# Altium footprint library Crystal.PcbLib: 7 footprints
Each footprint in its own frame and in the unit in brackets; x right, y up, seen from the top. Pads: shape width x height; smd on the part's side, far side on the other; paste and mask are expansions set on the pad; w line width, h text height; cw(c..) or ccw(c..) is an arc to the next point about the centre after c.
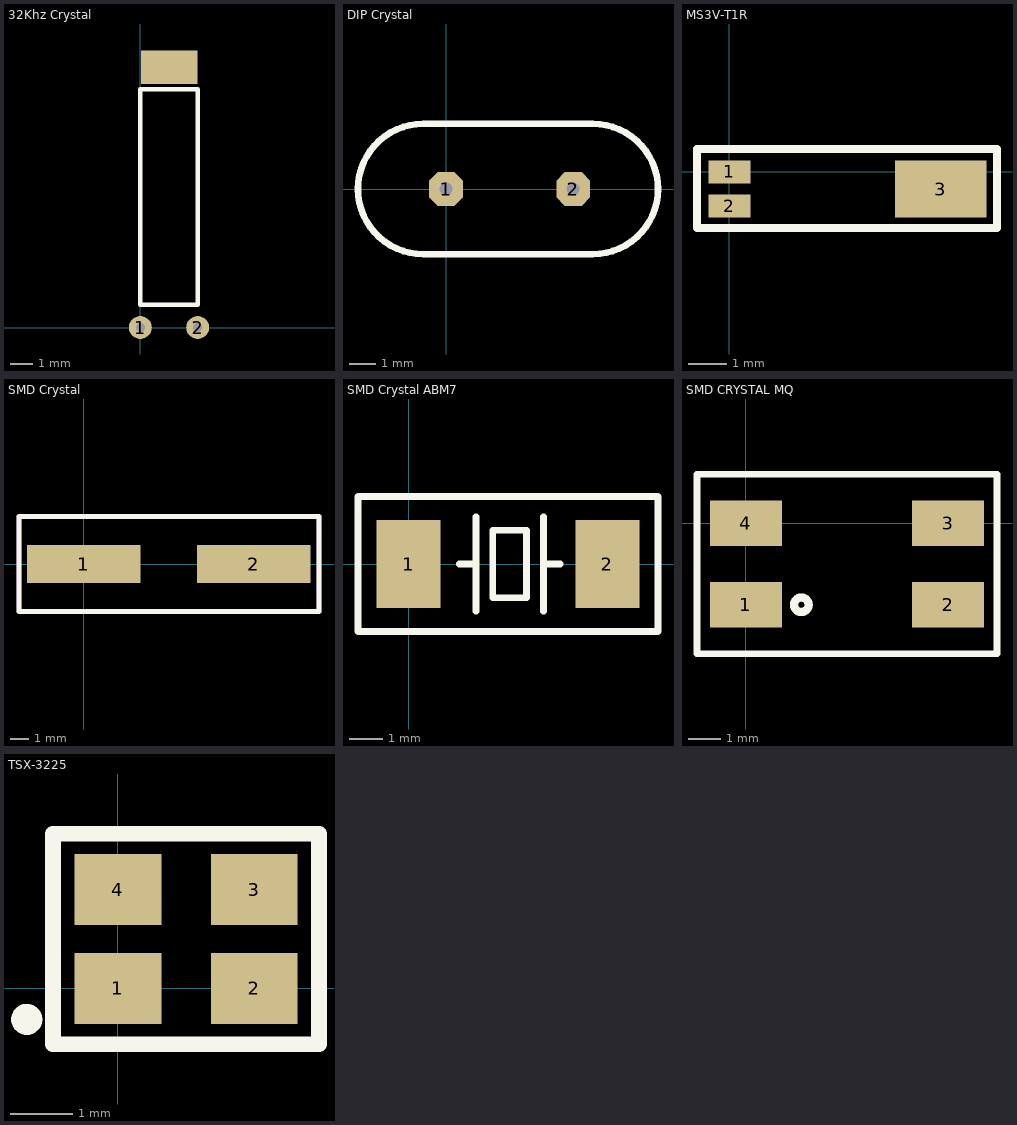
[diagram p0: the footprints below, top view; thin cyan lines are the x and y axes]

## 32Khz Crystal [mm]
height 4
pads (3):
  round 1.016 / inner round 1.524 / far side round 1.016 hole 0.4: 1(0,0) 2(2.54,0)
  rect 2.5x1.5 smd: ""(1.275,11.525)
Top Overlay:
  lines w0.2: 0,1.016 2.54,1.016 2.54,5.969 2.54,8.001 2.54,10.541 0,10.541 0,8.001 0,5.969 0,1.016
3D body: height 3.1, standoff -0.1, extent -0.475,0.075 2.975,10.85

## DIP Crystal [mm]
pads (2):
  oct 1.3x1.3 hole 0.5: 1(0,0) 2(4.875,0)
Top Overlay:
  lines w0.254: -3.375,0 cw(c-0.875,0) -0.875,2.5 5.625,2.5 cw(c5.625,0) 8.125,0 cw(c5.625,0) 5.625,-2.5 -0.875,-2.5 cw(c-0.875,0) -3.375,0

## MS3V-T1R [mm]
pads (3):
  rect 1.1x0.6 smd: 1(0,0) 2(0,-0.9)
  rect 2.4x1.5 smd: 3(5.55,-0.45)
Top Overlay:
  lines w0.2: -0.85,-1.475 7.025,-1.475 7.025,0.6 -0.85,0.6 -0.85,-1.475

## SMD Crystal [mm]
height 6.68
pads (2):
  rect 5.999x2 smd: 1(0,0) 2(9,0)
Top Overlay:
  lines w0.254: -3.429,-2.515 7.036,-2.515 12.446,-2.515 12.446,2.515 -3.429,2.515 -3.429,-2.515
Mechanical 1:
  lines w0.254: -3.429,-2.515 -3.429,2.515 12.446,2.515 12.446,-2.515 7.036,-2.515 -3.429,-2.515
3D body: height 4.2, standoff 0, extent -1.625,-2.35 11.075,2.35

## SMD Crystal ABM7 [mm]
height 1.4
pads (2):
  rect 1.9x2.6 smd: 1(0,0) 2(5.9,0)
Top Overlay:
  lines w0.2: 1.5,0 1.9,0 ; 2,-1.4 2,1.4 ; 4,-1.4 4,1.4 ; 4,0 4.5,0 ; -1.5,-2 7.4,-2 7.4,2 -1.5,2 -1.5,-2 ; 2.5,-1 3.5,-1 3.5,1 2.5,1 2.5,-1
3D body: height 1.39, standoff -0.01, extent -0.175,-1.875 6.025,1.825

## SMD CRYSTAL MQ [mm]
pads (4):
  rect 2.2x1.4 smd: 1(0,-2.5) 2(6.2,-2.5) 3(6.2,0) 4(0,0)
Top Overlay:
  circle w0.254: c1.7,-2.5 r0.224
  lines w0.2: -1.5,-4 -1.5,1.5 7.7,1.5 7.7,-4 -1.5,-4
3D body: height 1.8, standoff 0, extent -0.4,-3.78 6.6,1.3

## TSX-3225 [mm]
pads (4):
  rect 1.4x1.15 smd: 1(0,0) 2(2.2,0) 3(2.2,1.6) 4(0,1.6)
Top Overlay:
  circle w0.254: c-1.475,-0.5 r0.125
  lines w0.254: -1.05,-0.9 3.25,-0.9 3.25,2.5 -1.05,2.5 -1.05,-0.9
3D body: height 0.77, standoff 0, extent -0.5,-0.45 2.7,2.05